# EAGLE library part AD7705BNZ (library AD7705BNZ_LIB)
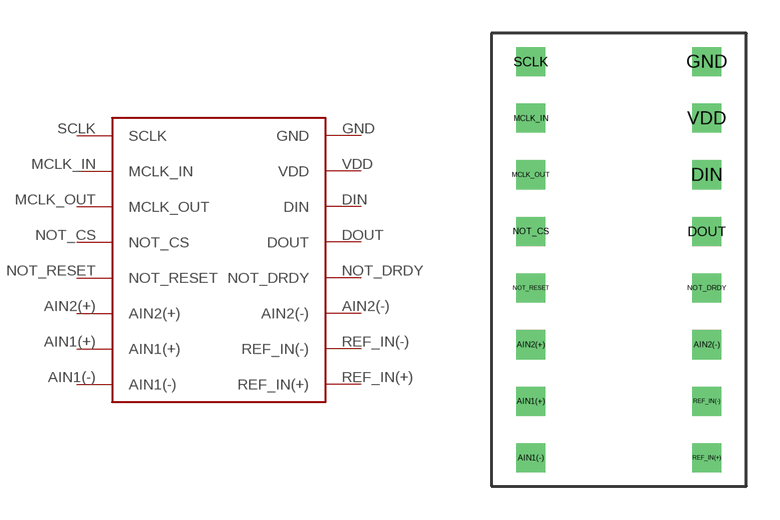
[diagram p0: symbol with the pads of AD7705BNZ; footprint AD7705BNZ]

Designator prefix -

## AD7705BNZ  [AD7705BNZ]
AIN1(+)  AIN1(+)
AIN1(-)  AIN1(-)
AIN2(+)  AIN2(+)
AIN2(-)  AIN2(-)
DIN  DIN
DOUT  DOUT
GND  GND
MCLK_IN  MCLK_IN
MCLK_OUT  MCLK_OUT
NOT_CS  NOT_CS
NOT_DRDY  NOT_DRDY
NOT_RESET  NOT_RESET
REF_IN(+)  REF_IN(+)
REF_IN(-)  REF_IN(-)
SCLK  SCLK
VDD  VDD

## Footprint AD7705BNZ (pad centres in mm)
drill 0.8 square: AIN1(+) -3.31,-8.89; AIN1(-) -3.31,-11.43; AIN2(+) -3.31,-6.35; AIN2(-) 4.58,-6.35; DIN 4.58,1.27; DOUT 4.58,-1.27; GND 4.58,6.35; MCLK_IN -3.31,3.81; MCLK_OUT -3.31,1.27; NOT_CS -3.31,-1.27; NOT_DRDY 4.58,-3.81; NOT_RESET -3.31,-3.81; REF_IN(+) 4.58,-11.43; REF_IN(-) 4.58,-8.89; SCLK -3.31,6.35; VDD 4.58,3.81